# Altium footprint library RCDQLY.PCBLIB: 125 footprints (part 1 of 8)
Each footprint in its own frame and in the unit in brackets; x right, y up, seen from the top. Pads: shape width x height; smd on the part's side, far side on the other; paste and mask are expansions set on the pad; w line width, h text height; cw(c..) or ccw(c..) is an arc to the next point about the centre after c.
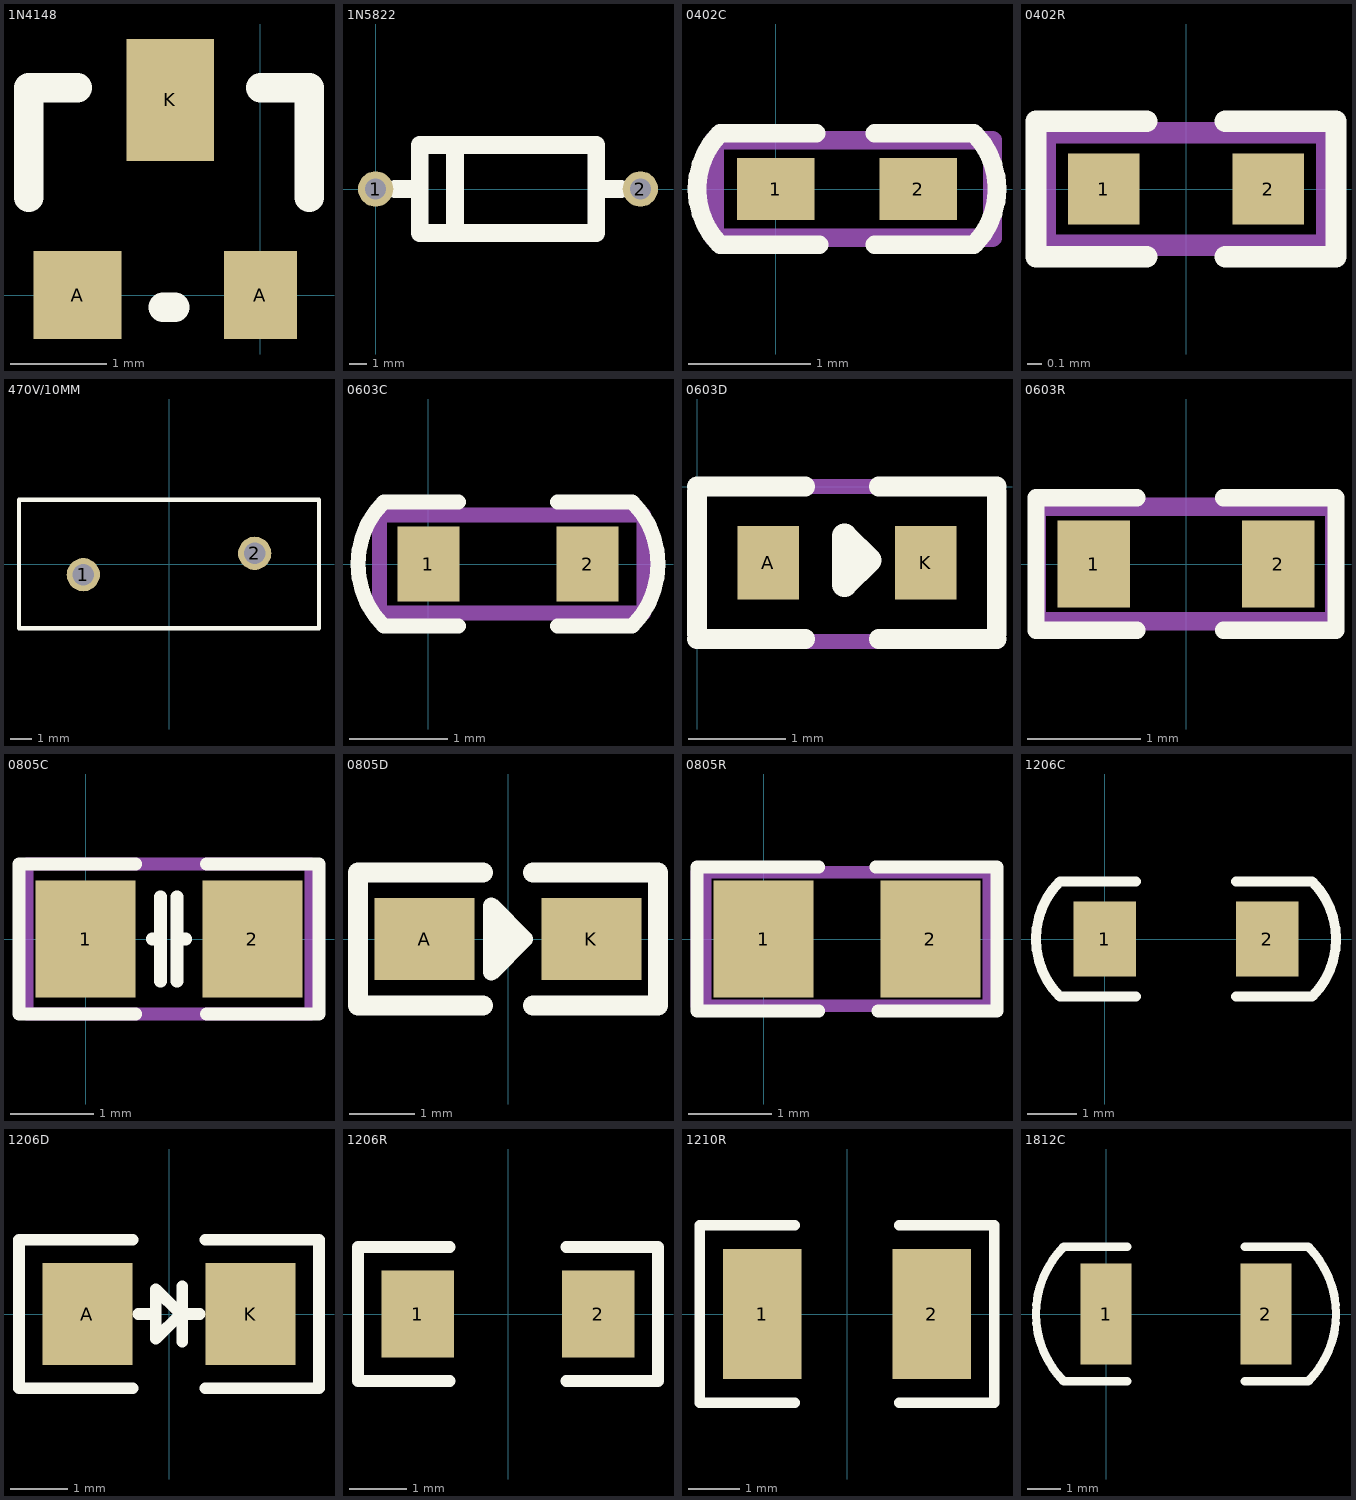
[diagram p0: the footprints below, top view; thin cyan lines are the x and y axes]

## 1N4148 [mil]
pads (3):
  rect 36x36 smd: A(-75,0)
  rect 30x36 smd: A(0,0)
  rect 36x50 smd: K(-37,80)
TopOverlay:
  lines w12: -95,40 -95,85 -75,85 ; -40,-5 -35,-5 ; 0,85 20,85 20,40

## 1N5822 [mm]
pads (2):
  round 2 hole 1.2: 1(0,0) 2(15,0)
TopOverlay:
  lines w1.016: 1.1,0 2.5,0 ; 4.5,-2.5 4.5,2.5 ; 12.5,0 13.9,0 ; 2.5,-2.5 2.5,2.5 12.5,2.5 12.5,-2.5 2.5,-2.5

## 0402C [mil]
pads (2):
  rect 25x20 smd: 1(0,0) 2(46,0)
TopOverlay:
  lines w6: -18,-18 cw(c0,0) -18,18 13,18 ; -17,-18 14,-18 ; 32,-18 64,-18 ccw(c46,0) 64,18 32,18
Mechanical13:
  lines w6: -20,-15.75 -20,15.75 70,15.75 70,-15.75 -20,-15.75
  text ".Designator" at -10,-10 h20
Mechanical15:
  lines w6: -19.68,-15.75 70,-15.75 70,15.75 -19.68,15.75 -19.68,-15.75
  text ".Comment" at -10,-10 h20
3D body "0402 SMD Capacitor.step": height 7.95, standoff 0, extent 3.94,-11.81 43.31,11.81

## 0402R [mil]
pads (2):
  rect 20x20 smd: 1(-23,0) 2(23,0)
TopOverlay:
  lines w6: -11,-19 -42,-19 -42,19 -11,19 ; 11,-19 42,-19 42,19 11,19
Mechanical13:
  lines w6: -39.37,-15.75 39.37,-15.75 39.37,15.75 -39.37,15.75 -39.37,-15.75
  text ".Designator" at -35.43,-7.87 h20
Mechanical15:
  lines w6: -39.37,-15.75 -39.37,15.75 39.37,15.75 39.37,-15.75 -39.37,-15.75
  text ".Comment" at -35.43,-11.81 h20
3D body "User Library-RES_1005-0402.STEP": height 16.14, standoff 0, extent -22.63,-10.82 22.64,10.83

## 470V/10MM [mm]
pads (2):
  round 1.55 hole 1: 1(-4,-0.5) 2(4,0.5)
TopOverlay:
  lines w0.203: -7,-3 7,-3 7,3 -7,3 -7,-3

## 0603C [mil]
pads (2):
  rect 25x30 smd: 1(0,0) 2(64,0)
TopOverlay:
  lines w6: 12,-25 -18,-25 cw(c7,0) -18,25 12,25 ; 52,-25 82,-25 ccw(c57,0) 82,25 52,25
Mechanical13:
  lines w6: -19.68,-19.68 86.61,-19.68 86.61,19.68 -19.68,19.68 -19.68,-19.68
  text ".Designator" at -15.75,-7.87 h20
Mechanical15:
  lines w6: -19.68,-19.68 -19.68,19.68 86.61,19.68 86.61,-19.68 -19.68,-19.68
  text ".Comment" at -15.75,-7.87 h20
3D body "User Library-0603 SMD Capacitor.STEP": height 11.89, standoff 0, extent 0,-15.75 62.99,15.75

## 0603D [mil]
pads (2):
  rect 25x30 smd: A(29,-31) K(93,-31)
TopOverlay:
  lines w8: 0,-62 44,-62 ; 0,-60 0,-2 ; 0,0 44,0 ; 74,-62 122,-62 ; 74,0 122,0 ; 122,-60 122,-2
  lines w10: 60,-40 60,-20 70,-30 60,-40
Mechanical13:
  lines w6: 0,-62.99 0,0 122.05,0 122.05,-62.99 0,-62.99
  text ".Designator" at 7.87,-39.37 h20
Mechanical15:
  lines w6: 0,-62.99 122.05,-62.99 122.05,0 0,0 0,-62.99
  text ".Comment" at 7.87,-39.37 h20

## 0603R [mil]
pads (2):
  rect 25x30 smd: 1(-32,0) 2(32,0)
TopOverlay:
  lines w6: -17,-23 -52,-23 -52,23 -17,23 ; 13,-23 52,-23 52,23 13,23
Mechanical13:
  lines w6: -51.5,-20 51.18,-20 51.18,20 -51.5,20 -51.5,-20
  text ".Designator" at -43.31,-7.87 h20
Mechanical15:
  lines w6: -51.5,-19.68 -51.5,19.68 51.18,19.68 51.18,-19.68 -51.5,-19.68
  text ".Comment" at -43.31,-7.87 h20
3D body "User Library-RES_1609-0603.STEP": height 22.05, standoff 0, extent -33.46,-15.74 33.47,15.75

## 0805C [mm]
height 0.254
pads (2):
  rect 1.2x1.4 smd: 1(0,0) 2(2,0)
TopOverlay:
  lines w0.152: 0.6,-0.9 -0.8,-0.9 -0.8,0.9 0.6,0.9 ; 0.8,0 0.9,0 ; 0.897,-0.508 0.897,0.508 ; 1.097,-0.508 1.097,0.508 ; 1.1,0 1.2,0 ; 1.451,-0.9 2.8,-0.9 2.8,0.9 1.451,0.9
Mechanical13:
  lines w0.152: -0.7,-0.9 -0.7,0.9 2.7,0.9 2.7,-0.9 -0.7,-0.9
  text ".Designator" at -0.7,-0.3 h0.51
Mechanical15:
  lines w0.152: -0.7,-0.9 2.7,-0.9 2.7,0.9 -0.7,0.9 -0.7,-0.9
  text ".Comment" at -0.7,-0.3 h0.51
3D body "User Library-0805 SMD Capacitor.STEP": height 0.77, standoff -0.01, extent 0,-0.625 2,0.625

## 0805D [mil]
height 10
pads (2):
  rect 60x49.21 smd: A(-50,0) K(50,0)
TopOverlay:
  lines w10: -10,-10 -5,-10 0,-5 0,0 -3.96,3.96 -10,10 -10,20 ; -10,20 10,0 -10,-20 -10,20
  lines w12: -15,-40 -90,-40 -90,40 -15,40 ; 15,-40 90,-40 90,40 15,40
3D body "User Library-led_0805.STEP": height 43.31, standoff 0, extent -35.98,-24.21 43.54,25

## 0805R [mm]
height 0.254
pads (2):
  rect 1.2x1.4 smd: 1(0,0) 2(2,0)
TopOverlay:
  lines w0.152: 0.66,-0.864 -0.8,-0.864 -0.8,0.864 0.66,0.864 ; 1.346,0.864 2.8,0.864 2.8,-0.864 1.372,-0.864
Mechanical13:
  lines w0.152: -0.7,-0.8 2.7,-0.8 2.7,0.8 -0.7,0.8 -0.7,-0.8
  text ".Designator" at -0.6,-0.2 h0.51
Mechanical15:
  lines w0.152: -0.8,-0.8 -0.8,0.8 2.7,0.8 2.7,-0.8 -0.8,-0.8
  text ".Comment" at -0.6,-0.2 h0.51
3D body "User Library-0805 SMD R.STEP": height 0.77, standoff -0.01, extent 0,-0.625 2,0.625

## 1206C [mil]
pads (2):
  rect 50x60 smd: 1(0,0) 2(130,0)
TopOverlay:
  lines w8: 25,-46 -36,-46 cw(c10,0) -36,46 25,46 ; 105,-46 166,-46 ccw(c120,0) 166,46 105,46

## 1206D [mil]
pads (2):
  rect 62x70 smd: A(-56,0) K(56,0)
TopOverlay:
  lines w8: -25,-51 -103,-51 -103,51 -25,51 ; -21,0 -9,0 ; 9,-19 9,19 ; 9,0 21,0 ; 25,-51 103,-51 103,51 25,51 ; -9,-17 -9,17 8,0 -9,-17

## 1206R [mil]
pads (2):
  rect 50x60 smd: 1(-62,0) 2(62,0)
TopOverlay:
  lines w8: -40,-46 -103,-46 -103,46 -40,46 ; 40,-46 103,-46 103,46 40,46

## 1210R [mil]
pads (2):
  rect 60x100 smd: 1(-65,0) 2(65,0)
TopOverlay:
  lines w8: -40,-68 -113,-68 -113,68 -40,68 ; 40,-68 113,-68 113,68 40,68

## 1812C [mil]
pads (2):
  rect 60x120 smd: 1(0,0) 2(190,0)
TopOverlay:
  lines w10: 25,-80 -50,-80 cw(c30,0) -50,80 25,80 ; 165,-80 240,-80 ccw(c160,0) 240,80 165,80